# Altium integrated library bq25820.IntLib: 1 symbol
Pins are listed as number, name and electrical type; pins without a type are passive.

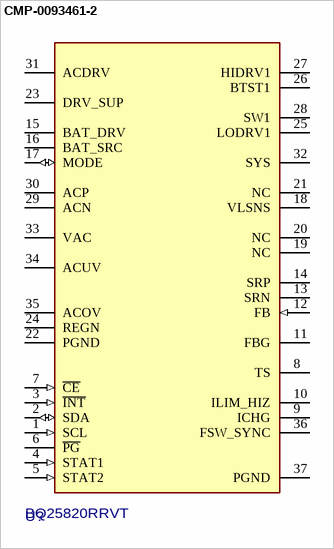
[diagram p0: symbol CMP-0093461-2]

## CMP-0093461-2
designator U?, comment BQ25820RRVT
Manufacturer: Texas Instruments; SizeZ_mm: 1mm; CompType: IC; Standoff Height: 0mm; AEC Category: Q200; helpURL: https://upverter.com/upn/revision/5264c4d772dc5349/; PackageReference: VQFN36; Part Number: BQ25820RRVT; PartNumber: BQ25820RRVT; ComponentLink1Description: Datasheet Link; ComponentLink1URL: http://www.ti.com/lit/ds/symlink/GPN.pdf; Datasheet Path: datasheets/IC-BQ25820RRVT.pdf; ComponentLink3Description: Online Datasheet; ComponentLink3URL: http://www.ti.com/product/GPN/datasheet; Operating Temperature Range: to; ComponentLink2URL: http://www.ti.com/product/GPN; ComponentLink2Description: Product Folder; RoHS: UNKNOWN
footprint RRV0036A-MFG
footprint RRV0036A-IPC_C
footprint RRV0036A-IPC_A
footprint RRV0036A-IPC_B
pins: 1 SCL (in), 2 SDA (io), 3 ~{INT} (in), 4 STAT1 (in), 5 STAT2 (in), 6 ~{PG} (oc), 7 ~{CE} (in), 8 TS, 9 ICHG, 10 ILIM_HIZ, 11 FBG, 12 FB (in), 13 SRN, 14 SRP, 15 BAT_DRV, 16 BAT_SRC, 17 MODE (io), 18 VLSNS, 19 NC, 20 NC, 21 NC, 22 PGND (power), 23 DRV_SUP, 24 REGN, 25 LODRV1, 26 BTST1, 27 HIDRV1, 28 SW1, 29 ACN, 30 ACP, 31 ACDRV, 32 SYS (power), 33 VAC (power), 34 ACUV, 35 ACOV, 36 FSW_SYNC, 37 PGND (power)